# Altium footprint library chip.PcbLib: 16 footprints
Each footprint in its own frame and in the unit in brackets; x right, y up, seen from the top. Pads: shape width x height; smd on the part's side, far side on the other; paste and mask are expansions set on the pad; w line width, h text height; cw(c..) or ccw(c..) is an arc to the next point about the centre after c.
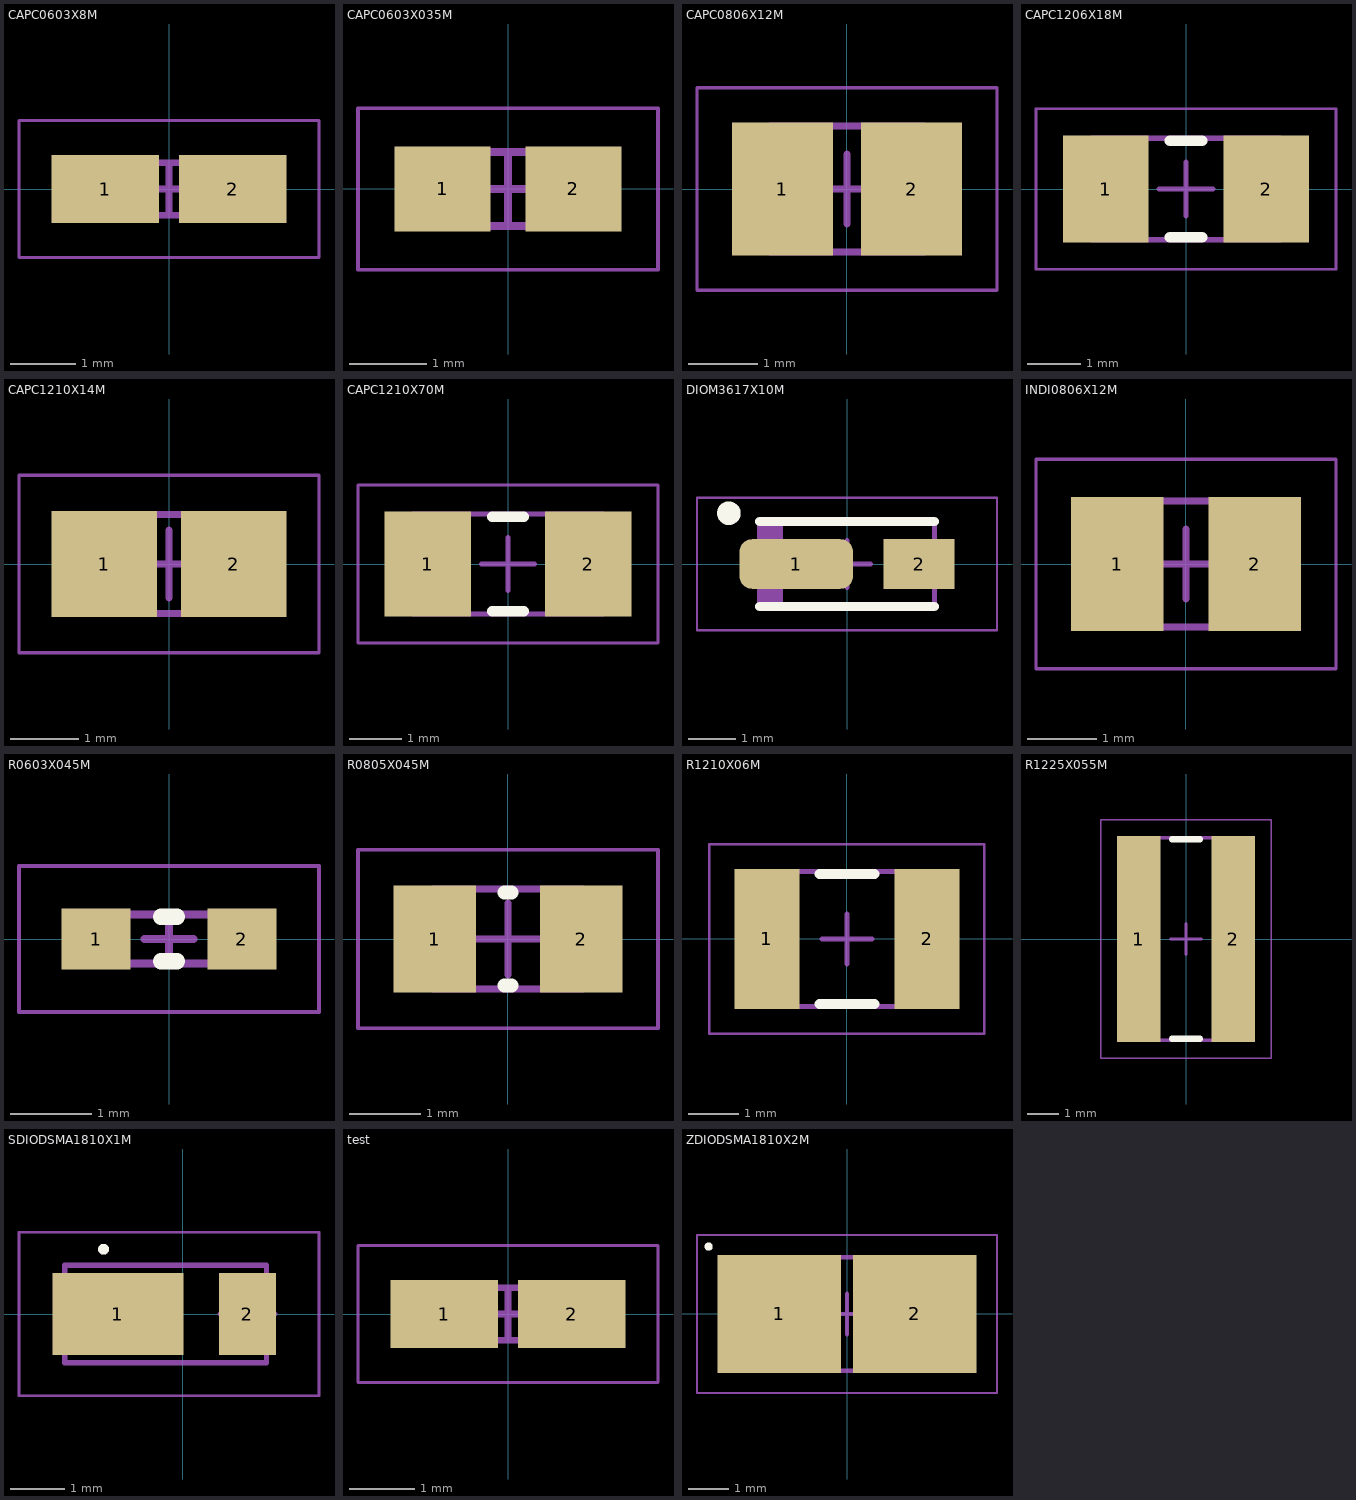
[diagram p0: the footprints below, top view; thin cyan lines are the x and y axes]

## CAPC0603X8M [mm] "Chip Capacitor, 2-Leads, Body 4.50x3.10mm, IPC Low Density"
height 1.8
pads (2):
  rect 1.65x1.05 smd: 1(-0.975,0) 2(0.975,0)
Top Assembly:
  lines w0.1: -1.2,-0.4 -1.2,0.4 1.2,0.4 1.2,-0.4 -1.2,-0.4
Top Courtyard:
  lines w0.05: -2.3,-1.05 -2.3,1.05 2.3,1.05 2.3,-1.05 -2.3,-1.05
  lines w0.1: -0.4,0 0.4,0 ; 0,-0.4 0,0.4
3D body: height 0.8, standoff 0, extent -0.35,-0.4 0.35,0.4
3D body: height 0.8, standoff 0, extent -1.2,-0.4 -0.35,0.4
3D body: height 0.8, standoff 0, extent 0.35,-0.4 1.2,0.4

## CAPC0603X035M [mm] "Chip Capacitor, 2-Leads, Body 1.60x0.81mm, IPC Low Density"
height 0.35
pads (2):
  rect 1.25x1.1 smd: 1(-0.85,0) 2(0.85,0)
Top Assembly:
  lines w0.1: -0.875,-0.48 -0.875,0.48 0.875,0.48 0.875,-0.48 -0.875,-0.48
Top Courtyard:
  lines w0.05: -1.95,-1.05 -1.95,1.05 1.95,1.05 1.95,-1.05 -1.95,-1.05
  lines w0.1: -0.48,0 0.48,0 ; 0,-0.48 0,0.48
3D body "CAPC1608X04M.step": height 0.35, standoff 0, extent -0.875,-0.48 0.875,0.48

## CAPC0806X12M [mm] "Chip Capacitor, 2-Leads, Body 2.00x1.60mm, IPC Low Density"
height 1.2
pads (2):
  rect 1.45x1.9 smd: 1(-0.925,0) 2(0.925,0)
Top Assembly:
  lines w0.1: -1.1,-0.9 1.1,-0.9 1.1,0.9 -1.1,0.9 -1.1,-0.9
Top Courtyard:
  lines w0.05: -2.15,-1.45 2.15,-1.45 2.15,1.45 -2.15,1.45 -2.15,-1.45
  lines w0.1: -0.5,0 0.5,0 ; 0,-0.5 0,0.5
3D body "CAPC2016X12M.step": height 1.2, standoff 0, extent -1.1,-0.9 1.1,0.9

## CAPC1206X18M [mm] "Chip Capacitor, 2-Leads, Body 3.20x1.60mm, IPC Low Density"
height 1.8
pads (2):
  rect 1.6x2 smd: 1(-1.5,0) 2(1.5,0)
Top Overlay:
  lines w0.2: -0.3,-0.9 0.3,-0.9 ; -0.3,0.9 0.3,0.9
Top Assembly:
  lines w0.1: -1.75,-0.95 1.75,-0.95 1.75,0.95 -1.75,0.95 -1.75,-0.95
Top Courtyard:
  lines w0.05: -2.8,-1.5 2.8,-1.5 2.8,1.5 -2.8,1.5 -2.8,-1.5
  lines w0.1: -0.5,0 0.5,0 ; 0,-0.5 0,0.5
3D body "CAPC3216X18M.step": height 1.8, standoff 0, extent -1.75,-0.95 1.75,0.95

## CAPC1210X14M [mm] "Chip Capacitor, 2-Leads, Body 2.10x1.25mm, IPC Low Density"
height 1.15
pads (2):
  rect 1.55x1.55 smd: 1(-0.95,0) 2(0.95,0)
Top Assembly:
  lines w0.1: -1.15,-0.725 1.15,-0.725 1.15,0.725 -1.15,0.725 -1.15,-0.725
Top Courtyard:
  lines w0.05: -2.2,-1.3 2.2,-1.3 2.2,1.3 -2.2,1.3 -2.2,-1.3
  lines w0.1: -0.5,0 0.5,0 ; 0,-0.5 0,0.5
3D body "CAPC2112X12M.step": height 1.15, standoff 0, extent -1.15,-0.725 1.15,0.725

## CAPC1210X70M [mm] "Chip Resistor, 2-Leads, Body 3.30x1.70mm, IPC Low Density"
height 0.8
pads (2):
  rect 1.65x2 smd: 1(-1.525,0) 2(1.525,0)
Top Overlay:
  lines w0.2: -0.3,-0.9 0.3,-0.9 ; -0.3,0.9 0.3,0.9
Top Assembly:
  lines w0.1: -1.8,-0.95 -1.8,0.95 1.8,0.95 1.8,-0.95 -1.8,-0.95
Top Courtyard:
  lines w0.05: -2.85,-1.5 -2.85,1.5 2.85,1.5 2.85,-1.5 -2.85,-1.5
  lines w0.1: -0.5,0 0.5,0 ; 0,-0.5 0,0.5
3D body "RESC3317X08M.step": height 0.8, standoff 0, extent -1.8,-0.95 1.8,0.95

## DIOM3617X10M [mm] "Molded Diode, 2-Leads, Body 3.60x1.71mm, IPC Low Density"
height 1
pads (2):
  rrect50% 2.4x1.05 smd: 1(-1.075,0)
  rect 1.5x1.05 smd: 2(1.525,0)
Top Overlay:
  circle w0.25: c-2.5,1.075 r0.125
  lines w0.2: -1.85,-0.9 1.85,-0.9 ; -1.85,0.9 1.85,0.9
Top Assembly:
  rectangle: -1.85,-0.89 -1.352,0.89
  lines w0.1: -1.85,-0.89 -1.85,0.89 1.85,0.89 1.85,-0.89 -1.85,-0.89
Top Courtyard:
  lines w0.05: -3.175,-1.4 -3.175,1.4 3.175,1.4 3.175,-1.4 -3.175,-1.4
  lines w0.1: -0.5,0 0.5,0 ; 0,-0.5 0,0.5
3D body "DIOM3617X10M.step": height 1, standoff 0, extent -2.07,-0.89 2.07,0.89

## INDI0806X12M [mm] "Chip Inductor, 2-Leads, Body 2.00x1.60mm, IPC Low Density"
height 1.2
pads (2):
  rect 1.33x1.92 smd: 1(-0.985,0) 2(0.985,0)
Top Assembly:
  lines w0.1: -1.1,-0.9 1.1,-0.9 1.1,0.9 -1.1,0.9 -1.1,-0.9
Top Courtyard:
  lines w0.05: -2.15,-1.5 2.15,-1.5 2.15,1.5 -2.15,1.5 -2.15,-1.5
  lines w0.1: -0.5,0 0.5,0 ; 0,-0.5 0,0.5
3D body "INDC2016X12M.step": height 1.2, standoff 0, extent -1.1,-0.9 1.1,0.9

## R0603X045 [mm]

## R0603X045M [mm] "Chip Resistor, 2-Leads, Body 2.00x0.60mm, IPC Low Density"
height 0.45
pads (2):
  rect 0.85x0.75 smd: 1(-0.9,0) 2(0.9,0)
Top Overlay:
  lines w0.2: -0.1,-0.275 0.1,-0.275 ; -0.1,0.275 0.1,0.275
Top Assembly:
  lines w0.1: -1,-0.3 -1,0.3 1,0.3 1,-0.3 -1,-0.3
Top Courtyard:
  lines w0.05: -1.85,-0.9 -1.85,0.9 1.85,0.9 1.85,-0.9 -1.85,-0.9
  lines w0.1: -0.3,0 0.3,0 ; 0,-0.3 0,0.3
3D body: height 0.45, standoff 0, extent -0.5,-0.3 0.5,0.3
3D body: height 0.45, standoff 0, extent -1,-0.3 -0.5,0.3
3D body: height 0.45, standoff 0, extent 0.5,-0.3 1,0.3

## R0805X045M [mm] "Chip Resistor, 2-Leads, Body 2.00x1.25mm, IPC Low Density"
height 0.55
pads (2):
  rect 1.15x1.5 smd: 1(-1.025,0) 2(1.025,0)
Top Overlay:
  lines w0.2: -0.05,-0.65 0.05,-0.65 ; -0.05,0.65 0.05,0.65
Top Assembly:
  lines w0.1: -1.05,-0.7 1.05,-0.7 1.05,0.7 -1.05,0.7 -1.05,-0.7
Top Courtyard:
  lines w0.05: -2.1,-1.25 2.1,-1.25 2.1,1.25 -2.1,1.25 -2.1,-1.25
  lines w0.1: -0.5,0 0.5,0 ; 0,-0.5 0,0.5
3D body "RESC2012X06M.step": height 0.55, standoff 0, extent -1.05,-0.7 1.05,0.7

## R1210X06M [mm] "Chip Resistor, 2-Leads, Body 3.20x2.50mm, IPC Low Density"
height 0.7
pads (2):
  rect 1.3x2.8 smd: 1(-1.6,0) 2(1.6,0)
Top Overlay:
  lines w0.2: -0.55,-1.3 0.55,-1.3 ; -0.55,1.3 0.55,1.3
Top Assembly:
  lines w0.1: -1.7,-1.35 1.7,-1.35 1.7,1.35 -1.7,1.35 -1.7,-1.35
Top Courtyard:
  lines w0.05: -2.75,-1.9 2.75,-1.9 2.75,1.9 -2.75,1.9 -2.75,-1.9
  lines w0.1: -0.5,0 0.5,0 ; 0,-0.5 0,0.5
3D body "RESC3225X07M.step": height 0.7, standoff 0, extent -1.7,-1.35 1.7,1.35

## R1225X055M [mm] "Chip Resistor, 2-Leads, Body 3.20x6.40mm, IPC Low Density"
height 0.65
pads (2):
  rect 1.4x6.65 smd: 1(-1.525,0) 2(1.525,0)
Top Overlay:
  lines w0.2: -0.45,-3.225 0.45,-3.225 ; -0.45,3.225 0.45,3.225
Top Assembly:
  lines w0.1: -1.675,-3.275 1.675,-3.275 1.675,3.275 -1.675,3.275 -1.675,-3.275
Top Courtyard:
  lines w0.05: -2.75,-3.85 2.75,-3.85 2.75,3.85 -2.75,3.85 -2.75,-3.85
  lines w0.1: -0.5,0 0.5,0 ; 0,-0.5 0,0.5
3D body "RESC3264X06M.step": height 0.65, standoff 0, extent -1.675,-3.275 1.675,3.275

## SDIODSMA1810X1M [mm] "Chip Diode, 2-Leads, Body 3.60x1.71mm, IPC Low Density"
height 0.98
pads (2):
  rect 2.4x1.5 smd: 1(-1.187,0)
  rect 1.05x1.5 smd: 2(1.188,0)
Top Overlay:
  circle w0.1: c-1.45,1.187 r0.05
Top Assembly:
  lines w0.1: -2.162,-0.89 1.538,-0.89 1.538,0.89 -2.162,0.89 -2.162,-0.89
Top Courtyard:
  lines w0.05: -3,-1.5 -3,1.5 2.5,1.5 2.5,-1.5 -3,-1.5
  lines w0.1: 0.688,0 1.687,0 ; 1.188,-0.5 1.188,0.5
3D body "DIOC3617X10M.step": height 0.98, standoff 0, extent -2.175,-0.89 1.525,0.89

## test [mm] "Chip Capacitor, 2-Leads, Body 2.35x0.80mm, IPC Low Density"
height 0.8
pads (2):
  rect 1.65x1.05 smd: 1(-0.975,0) 2(0.975,0)
Top Assembly:
  lines w0.1: -1.2,-0.4 -1.2,0.4 1.2,0.4 1.2,-0.4 -1.2,-0.4
Top Courtyard:
  lines w0.05: -2.3,-1.05 -2.3,1.05 2.3,1.05 2.3,-1.05 -2.3,-1.05
  lines w0.1: -0.4,0 0.4,0 ; 0,-0.4 0,0.4
3D body: height 0.8, standoff 0, extent -0.35,-0.4 0.35,0.4
3D body: height 0.8, standoff 0, extent -1.2,-0.4 -0.35,0.4
3D body: height 0.8, standoff 0, extent 0.35,-0.4 1.2,0.4

## ZDIODSMA1810X2M [mm] "Chip Diode, 2-Leads, Body 5.00x2.60mm, IPC Low Density"
height 2.2
pads (2):
  rect 3.05x2.9 smd: 1(-1.675,0) 2(1.675,0)
Top Overlay:
  circle w0.1: c-3.412,1.662 r0.05
Top Assembly:
  lines w0.1: -2.65,-1.4 2.65,-1.4 2.65,1.4 -2.65,1.4 -2.65,-1.4
Top Courtyard:
  lines w0.05: -3.7,-1.95 3.7,-1.95 3.7,1.95 -3.7,1.95 -3.7,-1.95
  lines w0.1: -0.5,0 0.5,0 ; 0,-0.5 0,0.5
3D body "DIOC5026X22M.step": height 2.2, standoff 0, extent -2.65,-1.4 2.65,1.4